# EAGLE library part LMV358IDGKR (library IC)
IC OPAMP GP 2 CIRCUIT 8VSSOP Manufacturer's datasheet <http://www.ti.com/lit/ds/symlink/lmv324.pdf>
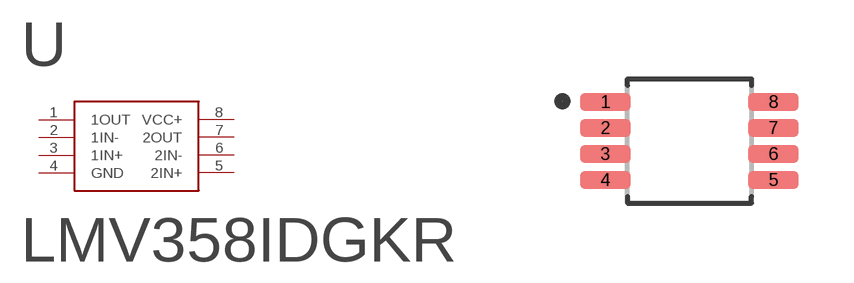
[diagram p35: symbol with the pads of 8-VSSOP; footprint 8-VSSOP]

Designator prefix U

## LMV358IDGKR (CREATED_BY: PCBLayout.com; DIGIKEY_PART_NUMBER: 296-13455-1-ND; MANUFACTURER: Texas Instruments; MPN: LMV358IDGKR; PACKAGE: 8-VSSOP)  [8-VSSOP]
1  1OUT  out
2  1IN-  in
3  1IN+  in
4  GND  pwr
5  2IN+  in
6  2IN-  in
7  2OUT  out
8  VCC+  pwr

## Footprint 8-VSSOP (pad centres in mm)
Small Outline Pkg (SOP), 0.65 mm pitch; 8 pin, 3.00 mm L X 3.00 mm W X 1.10 mm H body PCB Libraries Packages
smd 1.27 x 0.46: 1 -2.1,0.975; 2 -2.1,0.325; 3 -2.1,-0.325; 4 -2.1,-0.975; 5 2.1,-0.975; 6 2.1,-0.325; 7 2.1,0.325; 8 2.1,0.975